# Altium footprint library Components - 18.07.26 - 23.27.PcbLib: 1 footprints
Each footprint in its own frame and in the unit in brackets; x right, y up, seen from the top. Pads: shape width x height; smd on the part's side, far side on the other; paste and mask are expansions set on the pad; w line width, h text height; cw(c..) or ccw(c..) is an arc to the next point about the centre after c.
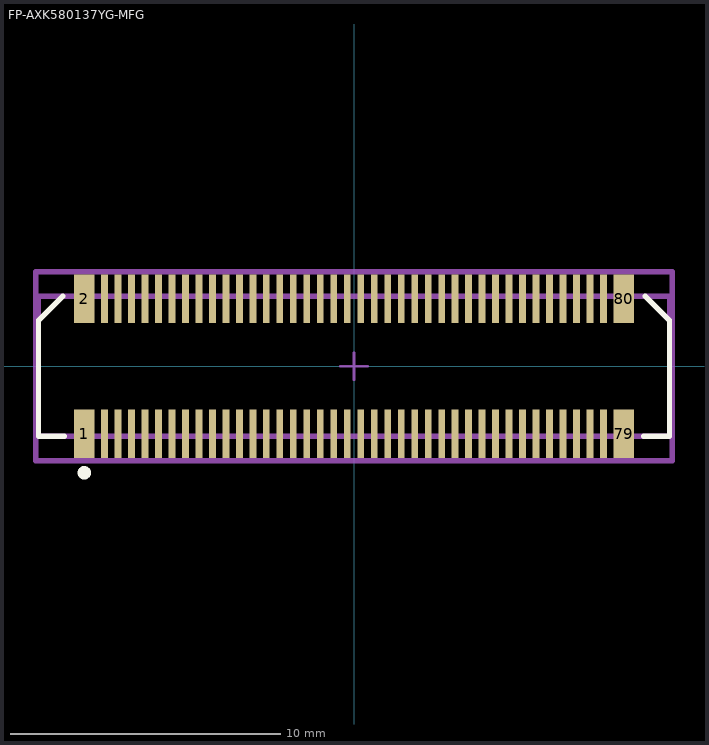
[diagram p0: the footprint, top view; thin cyan lines are the x and y axes]

## FP-AXK580137YG-MFG [mm]
pads (80):
  rect 0.75x1.8 smd paste-1000 mask+0: 1(-10,-2.5) 2(-10,2.5) 79(10,-2.5) 80(10,2.5)
  rect 0.25x1.8 smd paste-1000 mask+0: 3(-9.25,-2.5) 4(-9.25,2.5) 5(-8.75,-2.5) 6(-8.75,2.5) 7(-8.25,-2.5) 8(-8.25,2.5) 9(-7.75,-2.5) 10(-7.75,2.5) 11(-7.25,-2.5) 12(-7.25,2.5) 13(-6.75,-2.5) 14(-6.75,2.5) 15(-6.25,-2.5) 16(-6.25,2.5) 17(-5.75,-2.5) 18(-5.75,2.5) 19(-5.25,-2.5) 20(-5.25,2.5) 21(-4.75,-2.5) 22(-4.75,2.5) 23(-4.25,-2.5) 24(-4.25,2.5) 25(-3.75,-2.5) 26(-3.75,2.5) 27(-3.25,-2.5) 28(-3.25,2.5) 29(-2.75,-2.5) 30(-2.75,2.5) 31(-2.25,-2.5) 32(-2.25,2.5) 33(-1.75,-2.5) 34(-1.75,2.5) 35(-1.25,-2.5) 36(-1.25,2.5) 37(-0.75,-2.5) 38(-0.75,2.5) 39(-0.25,-2.5) 40(-0.25,2.5) 41(0.25,-2.5) 42(0.25,2.5) 43(0.75,-2.5) 44(0.75,2.5) 45(1.25,-2.5) 46(1.25,2.5) 47(1.75,-2.5) 48(1.75,2.5) 49(2.25,-2.5) 50(2.25,2.5) 51(2.75,-2.5) 52(2.75,2.5) 53(3.25,-2.5) 54(3.25,2.5) 55(3.75,-2.5) 56(3.75,2.5) 57(4.25,-2.5) 58(4.25,2.5) 59(4.75,-2.5) 60(4.75,2.5) 61(5.25,-2.5) 62(5.25,2.5) 63(5.75,-2.5) 64(5.75,2.5) 65(6.25,-2.5) 66(6.25,2.5) 67(6.75,-2.5) 68(6.75,2.5) 69(7.25,-2.5) 70(7.25,2.5) 71(7.75,-2.5) 72(7.75,2.5) 73(8.25,-2.5) 74(8.25,2.5) 75(8.75,-2.5) 76(8.75,2.5) 77(9.25,-2.5) 78(9.25,2.5)
Top Overlay:
  circle w0.25: c-10,-3.95 r0.125
  lines w0.2: -10.8,2.6 -11.7,1.7 -11.7,-2.6 -10.75,-2.6 ; 10.75,-2.6 11.7,-2.6 11.7,1.7 10.8,2.6
Top Paste:
  rectangle: 8.635,-3.4 8.865,-2.05
  rectangle: 9.135,-3.4 9.365,-2.05
  rectangle: 8.135,-3.4 8.365,-2.05
  rectangle: 7.635,-3.4 7.865,-2.05
  rectangle: 5.635,2.05 5.865,3.4
  rectangle: 6.135,2.05 6.365,3.4
  rectangle: 6.635,2.05 6.865,3.4
  rectangle: 7.635,2.05 7.865,3.4
  rectangle: 7.135,2.05 7.365,3.4
  rectangle: 3.635,2.05 3.865,3.4
  rectangle: 4.135,2.05 4.365,3.4
  rectangle: 4.635,2.05 4.865,3.4
  rectangle: 5.135,2.05 5.365,3.4
  rectangle: 5.635,-3.4 5.865,-2.05
  rectangle: 6.135,-3.4 6.365,-2.05
  rectangle: 6.635,-3.4 6.865,-2.05
  rectangle: 7.135,-3.4 7.365,-2.05
  rectangle: 3.135,-3.4 3.365,-2.05
  rectangle: 3.635,-3.4 3.865,-2.05
  rectangle: 4.135,-3.4 4.365,-2.05
  rectangle: 4.635,-3.4 4.865,-2.05
  rectangle: 5.135,-3.4 5.365,-2.05
  rectangle: 8.135,2.05 8.365,3.4
  rectangle: 8.635,2.05 8.865,3.4
  rectangle: 9.135,2.05 9.365,3.4
  rectangle: 2.135,2.05 2.365,3.4
  rectangle: 2.635,2.05 2.865,3.4
  rectangle: 3.135,2.05 3.365,3.4
  rectangle: 2.135,-3.4 2.365,-2.05
  rectangle: 2.635,-3.4 2.865,-2.05
  rectangle: 9.65,-3.4 10,-2.05
  rectangle: 1.635,-3.4 1.865,-2.05
  rectangle: 1.135,-3.4 1.365,-2.05
  rectangle: 0.635,-3.4 0.865,-2.05
  rectangle: 0.135,-3.4 0.365,-2.05
  rectangle: -0.365,-3.4 -0.135,-2.05
  rectangle: -0.865,-3.4 -0.635,-2.05
  rectangle: -1.365,-3.4 -1.135,-2.05
  rectangle: -1.865,-3.4 -1.635,-2.05
  rectangle: -2.365,-3.4 -2.135,-2.05
  rectangle: -2.865,-3.4 -2.635,-2.05
  rectangle: -3.365,-3.4 -3.135,-2.05
  rectangle: -3.865,-3.4 -3.635,-2.05
  rectangle: -4.365,-3.4 -4.135,-2.05
  rectangle: -4.865,-3.4 -4.635,-2.05
  rectangle: -5.365,-3.4 -5.135,-2.05
  rectangle: -5.865,-3.4 -5.635,-2.05
  rectangle: -6.365,-3.4 -6.135,-2.05
  rectangle: -6.865,-3.4 -6.635,-2.05
  rectangle: -7.365,-3.4 -7.135,-2.05
  rectangle: -7.865,-3.4 -7.635,-2.05
  rectangle: -8.365,-3.4 -8.135,-2.05
  rectangle: -8.865,-3.4 -8.635,-2.05
  rectangle: -9.365,-3.4 -9.135,-2.05
  rectangle: -10,-3.4 -9.65,-2.05
  rectangle: 9.65,2.05 10,3.4
  rectangle: 1.635,2.05 1.865,3.4
  rectangle: 1.135,2.05 1.365,3.4
  rectangle: 0.635,2.05 0.865,3.4
  rectangle: 0.135,2.05 0.365,3.4
  rectangle: -0.365,2.05 -0.135,3.4
  rectangle: -0.865,2.05 -0.635,3.4
  rectangle: -1.365,2.05 -1.135,3.4
  rectangle: -1.865,2.05 -1.635,3.4
  rectangle: -2.365,2.05 -2.135,3.4
  rectangle: -2.865,2.05 -2.635,3.4
  rectangle: -3.365,2.05 -3.135,3.4
  rectangle: -3.865,2.05 -3.635,3.4
  rectangle: -4.365,2.05 -4.135,3.4
  rectangle: -4.865,2.05 -4.635,3.4
  rectangle: -5.365,2.05 -5.135,3.4
  rectangle: -5.865,2.05 -5.635,3.4
  rectangle: -6.365,2.05 -6.135,3.4
  rectangle: -6.865,2.05 -6.635,3.4
  rectangle: -7.365,2.05 -7.135,3.4
  rectangle: -7.865,2.05 -7.635,3.4
  rectangle: -8.365,2.05 -8.135,3.4
  rectangle: -8.865,2.05 -8.635,3.4
  rectangle: -9.365,2.05 -9.135,3.4
  rectangle: -10,2.05 -9.65,3.4
Top Assembly:
  lines w0.2: -11.8,-3.5 -11.8,3.5 11.8,3.5 11.8,-3.5 -11.8,-3.5
  text ".Designator" at 0,0.188 h1
Top 3D Body:
  lines w0.2: -11.7,-2.6 -11.7,2.6 11.7,2.6 11.7,-2.6 -11.7,-2.6
Top Courtyard:
  lines w0.2: -11.8,-3.5 -11.8,3.5 11.8,3.5 11.8,-3.5 -11.8,-3.5
Top Component Center:
  lines w0.1: -0.5,0 0.5,0 ; 0,-0.5 0,0.5
3D body "Conn_Panasonic_AXK580137YG_eec.STEP": height 0.25, standoff 0, extent -11.8,-3.5 11.8,3.5